# Altium footprint library HV9006_MEASUREBOARD.PCBLIB: 292 footprints (part 10 of 19)
Each footprint in its own frame and in the unit in brackets; x right, y up, seen from the top. Pads: shape width x height; smd on the part's side, far side on the other; paste and mask are expansions set on the pad; w line width, h text height; cw(c..) or ccw(c..) is an arc to the next point about the centre after c.
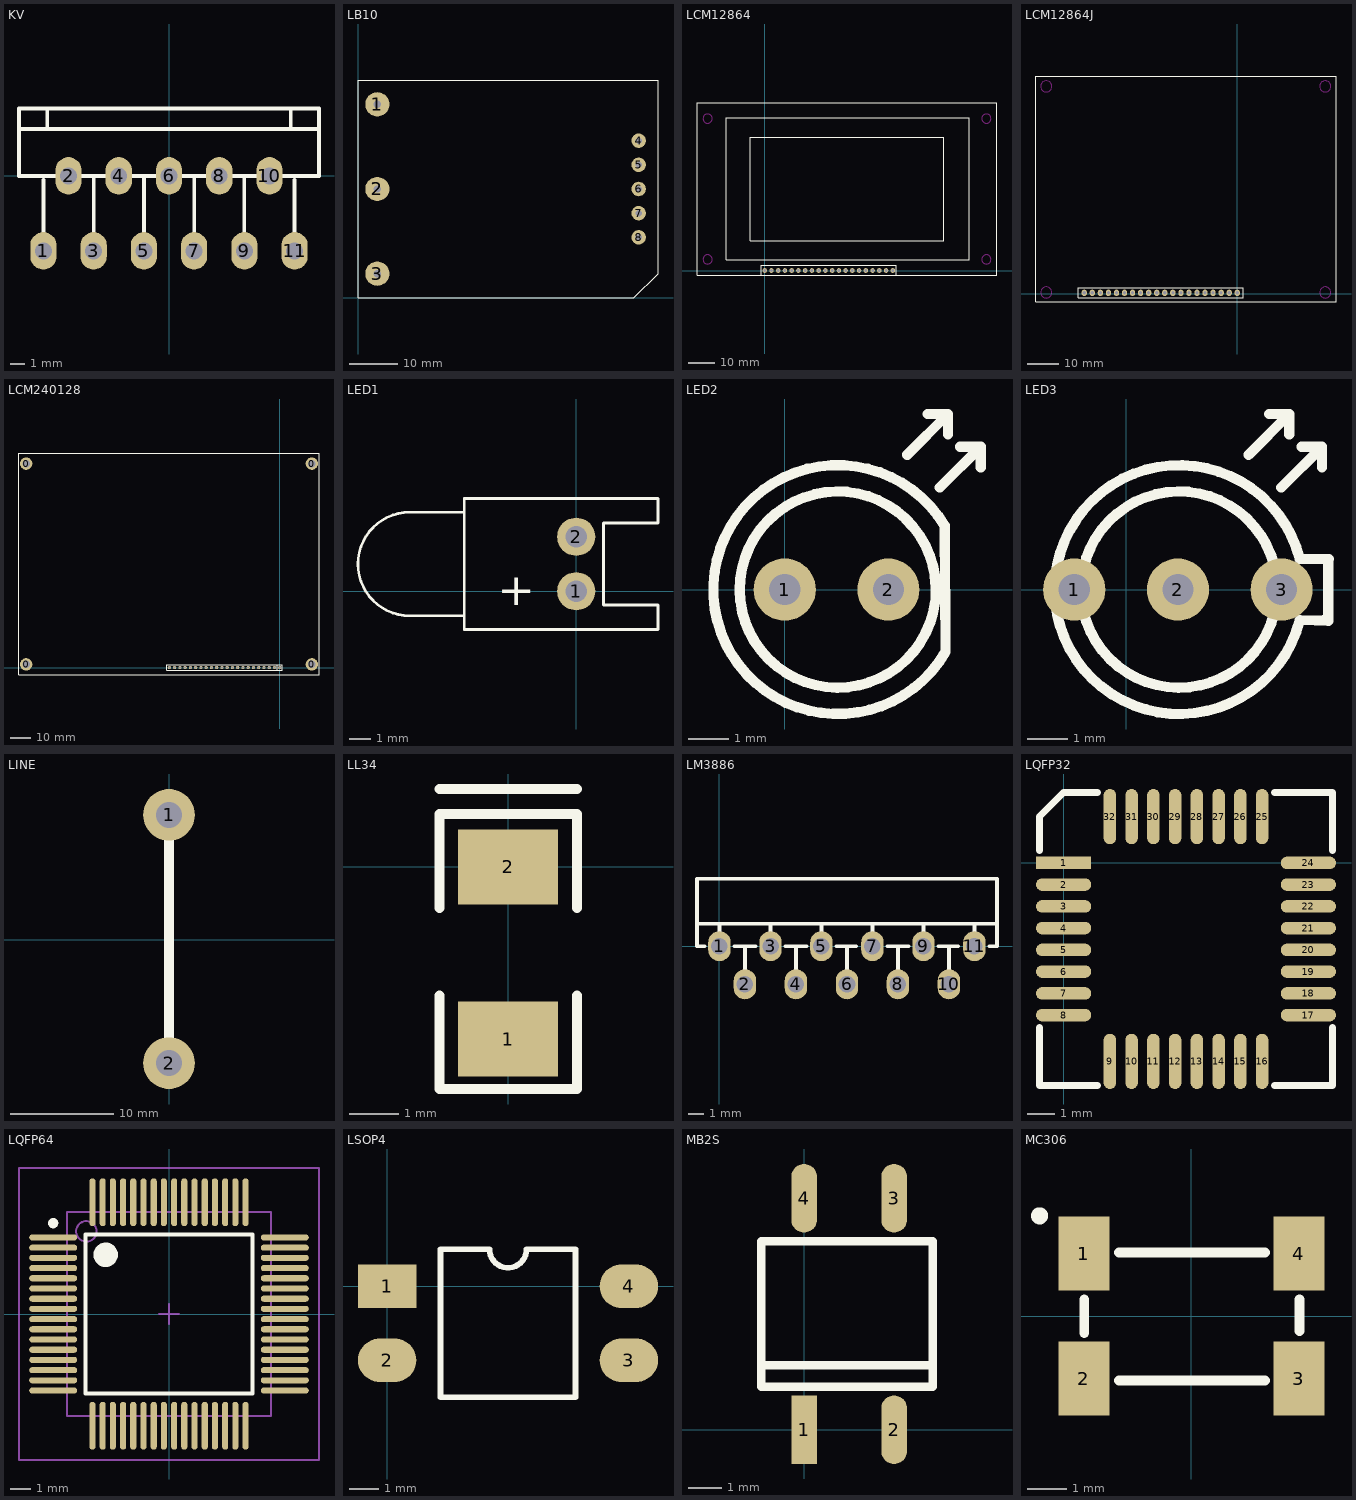
[diagram p9: the footprints below, top view; thin cyan lines are the x and y axes]

## KV [mil]
pads (11):
  oval 70x100 hole 45: 1(-335,-200) 2(-268,0) 3(-201,-200) 4(-134,0) 5(-67,-200) 6(0,0) 7(67,-200) 8(134,0) 9(201,-200) 10(268,0) 11(335,-200)
Top Overlay:
  lines w10: -400,125 400,125 ; -335,-200 -335,-10 ; -325,125 -325,180 ; -201,-200 -201,-1 ; -67,-200 -67,-8 ; 67,-200 67,-8 ; 201,-200 201,-1 ; 325,125 325,180 ; 335,-200 335,-10 ; -400,0 -400,180 400,180 400,0 -400,0

## LB10 [mm]
pads (8):
  round 5 hole 1.5: 1(4,40) 2(4,22.5) 3(4,5)
  round 3 hole 1.3: 4(58,32.5) 5(58,27.5) 6(58,22.5) 7(58,17.5) 8(58,12.5)
Top Overlay:
  lines w0.254: 62,5.5 62,5 ; 62,5 57,0 0,0 0,45 62,45 62,5

## LCM12864 [mil]
pads (20):
  oval 65x70 hole 39: 1(1900,0) 2(1800,0) 3(1700,0) 4(1600,0) 5(1500,0) 6(1400,0) 7(1300,0) 8(1200,0) 9(1100,0) 10(1000,0) 11(900,0) 12(800,0) 13(700,0) 14(600,0) 15(500,0) 16(400,0) 17(300,0) 18(200,0) 19(100,0) 20(0,0)
Top Overlay:
  lines w10: -551.18,157.48 -570.87,157.48 ; -50,-70.87 -50,75 1950,75 1950,-70.87 ; -570.87,157.48 3031.5,157.48 3031.5,2263.78 -570.87,2263.78 -570.87,157.48 ; -1003.94,-70.87 -1003.94,2488.19 3444.88,2488.19 3444.88,-70.87 -1003.94,-70.87 ; -216.54,444.88 2657.48,444.88 2657.48,1972.44 -216.54,1972.44 -216.54,444.88
Keep-Out Layer:
  circle w10: c-846.46,165.35 r68.9
  circle w10: c3287.4,165.35 r68.9
  circle w10: c3287.4,2251.97 r68.9
  circle w10: c-846.46,2251.97 r68.9
3D body: height 708.66, standoff 0, extent -49.98,-70.85 1949.98,74.98
3D body: height 708.66, standoff 425.2, extent -1008.94,-75.87 3449.88,2493.19

## LCM12864J [mil]
pads (20):
  oval 65x80 hole 39: 1(-1,11) 2(-101,11) 3(-201,11) 4(-301,11) 5(-401,11) 6(-501,11) 7(-601,11) 8(-701,11) 9(-801,11) 10(-901,11) 11(-1001,11) 12(-1101,11) 13(-1201,11) 14(-1301,11) 15(-1401,11) 16(-1501,11) 17(-1601,11) 18(-1701,11) 19(-1801,11) 20(-1901,11)
Top Overlay:
  lines w10: -2500,-100 1225,-100 1225,2700 -2500,2700 -2500,-100 ; -1975,-50 -1975,75 75,75 75,-50 -1975,-50
Keep-Out Layer:
  circle w10: c-2373,15 r69
  circle w10: c1092,15 r69
  circle w10: c1092,2574 r69
  circle w10: c-2373,2574 r69

## LCM240128 [mil]
pads (26):
  round 236.22 hole 138: 0(-4824,61) 0(-4824,3880) 0(610,61) 0(610,3880)
  round 62 hole 39: 1(0,0) 2(-100,0) 3(-200,0) 4(-300,0) 5(-400,0) 6(-500,0) 7(-600,0) 8(-700,0) 9(-800,0) 10(-900,0) 11(-1000,0) 12(-1100,0) 13(-1200,0) 14(-1300,0) 15(-1400,0) 16(-1500,0) 17(-1600,0) 18(-1700,0) 19(-1800,0) 20(-1900,0) 21(-2000,0) 22(-2100,0)
Top Overlay:
  lines w10: -4825,3879 -4824,3880 ; -50,-50 -50,50 ; -4961,-136 -4961,4077 747,4077 747,-136 -4961,-136 ; -2150,-50 -2150,50 -1950,50 50,50 50,-50 -1950,-50 -2150,-50

## LED1 [mil]
pads (2):
  round 70 hole 39: 1(0,0) 2(0,100)
Top Overlay:
  lines w5: -205,-45 -305,-45 cw(c-305,50) -305,145 -205,145 ; -205,-70 -205,170 150,170 150,125 50,125 50,-25 150,-25 150,-70 -205,-70
  text "+" at -75,25 h60
Mechanical 1:
  lines w0.98: -305,-45 -205,-45 ; -305,145 -205,145 ; 150,-25 150,-70 -205,-70 -205,170 150,170 150,125
  lines w1: -305,-45 cw(c-305,50) -305,145

## LED2 [mil]
pads (2):
  round 60 hole 30: 1(0,0) 2(100,0)
Top Overlay:
  lines w10: 118.11,129.92 157.48,169.29 ; 137.8,169.29 157.48,169.29 ; 144.96,-12.23 cw(c51.18,0) 145.42,-7.85 ; 149.61,98.43 188.98,137.8 ; 157.48,149.61 157.48,169.29 ; 169.29,137.8 188.98,137.8 ; 188.98,118.11 188.98,137.8 ; 154.3,61.36 ccw(c51.18,0) 155.12,-59.97 154.3,61.36

## LED3 [mil]
pads (3):
  round 60 hole 30: 1(-50,0) 2(50,0) 3(150,0)
Top Overlay:
  lines w10: 118.11,129.92 157.48,169.29 ; 137.8,169.29 157.48,169.29 ; 144.96,-12.23 cw(c51.18,0) 145.42,-7.85 ; 149.61,98.43 188.98,137.8 ; 157.48,149.61 157.48,169.29 ; 169.29,137.8 188.98,137.8 ; 188.98,118.11 188.98,137.8 ; 190.62,-29.38 195,-30 ; 195,-30 167.53,-29.38 cw(c51.18,0) 167.51,29.43 195.57,29.43 195,28.86 195,-30

## LINE [mm]
pads (2):
  round 5 hole 2.5: 1(0,12.065) 2(0,-11.935)
Top Overlay:
  lines w1: 0,-11.935 0,12.065

## LL34 [mil]
pads (2):
  rect 80x60 smd: 1(0,-137.79) 2(0,0)
Top Overlay:
  lines w8: -55,-102.8 -55,-177.79 55,-177.79 55,-102.8 ; -55,-32.8 -55,42.2 55,42.2 55,-32.8 ; -55,62.2 55,62.2

## LM3886 [mm]
pads (11):
  oval 1.5x2 hole 1.1: 1(0,0) 2(1.7,-2.54) 3(3.4,0) 4(5.1,-2.54) 5(6.8,0) 6(8.5,-2.54) 7(10.2,0) 8(11.9,-2.54) 9(13.6,0) 10(15.3,-2.54) 11(17,0)
Top Overlay:
  lines w0.254: -1.5,1.5 18.5,1.5 ; -1,0 -1.5,0 -1.5,4.5 18.5,4.5 18.5,0 18,0 ; 0,1 0,1.5 ; 1,0 2.4,0 ; 1.7,-2.54 1.7,0 ; 3.4,1 3.4,1.5 ; 4.4,0 5.8,0 ; 5.1,-2.54 5.1,0 ; 6.8,1 6.8,1.5 ; 7.8,0 9.1,0 ; 8.5,-2.54 8.5,0 ; 10.2,1 10.2,1.5 ; 11.2,0 12.6,0 ; 11.9,-2.54 11.9,0 ; 13.6,1 13.6,1.5 ; 14.6,0 15.9,0 ; 15.3,-2.54 15.3,0 ; 17,1 17,1.5

## LQFP32 [mil]
pads (32):
  rect 80x18 smd: 1(0,0)
  oval 80x18 smd: 2(0,-31.5) 3(0,-62.99) 4(0,-94.49) 5(0,-125.98) 6(0,-157.48) 7(0,-188.98) 8(0,-220.47) 17(354.47,-220.47) 18(354.47,-188.98) 19(354.47,-157.48) 20(354.47,-125.98) 21(354.47,-94.49) 22(354.47,-62.99) 23(354.47,-31.5) 24(354.47,0)
  oval 18x80 smd: 9(67,-287.47) 10(98.5,-287.47) 11(129.99,-287.47) 12(161.49,-287.47) 13(192.98,-287.47) 14(224.48,-287.47) 15(255.98,-287.47) 16(287.47,-287.47) 25(287.47,67) 26(255.98,67) 27(224.48,67) 28(192.98,67) 29(161.49,67) 30(129.99,67) 31(98.5,67) 32(67,67)
Top Overlay:
  lines w10: -35,-238.47 -35,-322.47 49,-322.47 ; -35,18 -35,67 0,102 49,102 ; 305.47,-322.47 389.47,-322.47 389.47,-238.47 ; 305.47,102 389.47,102 389.47,18
3D body: height 0, standoff 0, extent -44,-331.47 398.47,111

## LQFP64 [mm] "TSQFP, 64-Leads, Body 12.2x11.8mm (max), Pitch 0.50mm, IPC Low Density"
height 1.6
pads (64):
  oval 2.35x0.3 smd: 1(-5.675,3.75) 2(-5.675,3.25) 3(-5.675,2.75) 4(-5.675,2.25) 5(-5.675,1.75) 6(-5.675,1.25) 7(-5.675,0.75) 8(-5.675,0.25) 9(-5.675,-0.25) 10(-5.675,-0.75) 11(-5.675,-1.25) 12(-5.675,-1.75) 13(-5.675,-2.25) 14(-5.675,-2.75) 15(-5.675,-3.25) 16(-5.675,-3.75) 33(5.675,-3.75) 34(5.675,-3.25) 35(5.675,-2.75) 36(5.675,-2.25) 37(5.675,-1.75) 38(5.675,-1.25) 39(5.675,-0.75) 40(5.675,-0.25) 41(5.675,0.25) 42(5.675,0.75) 43(5.675,1.25) 44(5.675,1.75) 45(5.675,2.25) 46(5.675,2.75) 47(5.675,3.25) 48(5.675,3.75)
  oval 0.3x2.35 smd: 17(-3.75,-5.475) 18(-3.25,-5.475) 19(-2.75,-5.475) 20(-2.25,-5.475) 21(-1.75,-5.475) 22(-1.25,-5.475) 23(-0.75,-5.475) 24(-0.25,-5.475) 25(0.25,-5.475) 26(0.75,-5.475) 27(1.25,-5.475) 28(1.75,-5.475) 29(2.25,-5.475) 30(2.75,-5.475) 31(3.25,-5.475) 32(3.75,-5.475) 49(3.75,5.475) 50(3.25,5.475) 51(2.75,5.475) 52(2.25,5.475) 53(1.75,5.475) 54(1.25,5.475) 55(0.75,5.475) 56(0.25,5.475) 57(-0.25,5.475) 58(-0.75,5.475) 59(-1.25,5.475) 60(-1.75,5.475) 61(-2.25,5.475) 62(-2.75,5.475) 63(-3.25,5.475) 64(-3.75,5.475)
Top Overlay:
  circle w0.25: c-5.675,4.45 r0.125
  circle w0.6: c-3.1,2.9 r0.3
  lines w0.2: -4.1,-3.9 -4.1,3.9 4.1,3.9 4.1,-3.9 -4.1,-3.9
Mechanical 13:
  circle w0.1: c-4.05,4.05 r0.5
  lines w0.1: -5,-5 -5,5 5,5 5,-5 -5,-5
Mechanical 15:
  lines w0.1: -0.5,0 0.5,0 ; 0,-0.5 0,0.5 ; -7.35,-7.15 -7.35,7.15 7.35,7.15 7.35,-7.15 -7.35,-7.15
3D body: height 1.6, standoff 0.05, extent -5,-5 5,5

## LSOP4 [mm]
pads (4):
  rect 2x1.5 smd: 1(0,0)
  oval 2x1.5 smd: 2(0,-2.54) 3(8.3,-2.54) 4(8.3,0)
Top Overlay:
  lines w0.2: 1.835,-3.81 6.465,-3.81 6.465,1.27 4.785,1.27 cw(c4.15,1.27) 3.515,1.27 1.835,1.27 1.835,-3.81

## MB2S [mil]
pads (4):
  rect 30x80 smd: 1(0,0)
  oval 30x80 smd: 2(105,0) 3(105,270) 4(0,270)
Top Overlay:
  lines w10: -50,75 150,75 ; -50,50 150,50 150,220 -50,220 -50,50

## MC306 [mm]
pads (4):
  rect 1.3x1.9 smd: 1(-2.75,1.6) 2(-2.75,-1.6) 3(2.75,-1.6) 4(2.75,1.6)
Top Overlay:
  circle w0.254: c-3.886,2.565 r0.092
  lines w0.254: -2.743,-0.432 -2.743,0.432 ; -1.854,-1.651 1.88,-1.651 ; -1.854,1.626 1.88,1.626 ; 2.769,-0.381 2.769,0.432